# Altium schematic symbol library Power Supplies.SchLib: 1 symbol
Pins are listed as number, name and electrical type; pins without a type are passive.

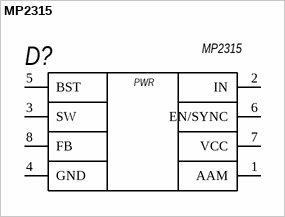
[diagram p0: symbol MP2315]

## MP2315
designator D?
Микросхема понижающего преобразователя напряжения со встроенным синхронным выпрямителем на МОП-транзисторах.
pins: 1 AAM, 2 IN, 3 SW, 4 GND, 5 BST, 6 EN/SYNC, 7 VCC, 8 FB
text: PWR